# Altium schematic symbol library IRLML6402.SchLib: 1 symbol
Pins are listed as number, name and electrical type; pins without a type are passive.

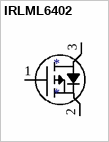
[diagram p0: symbol IRLML6402]

## IRLML6402
designator *
pins: 1, 2, 3